# Altium footprint library led1206.PcbLib: 1 footprints
Each footprint in its own frame and in the unit in brackets; x right, y up, seen from the top. Pads: shape width x height; smd on the part's side, far side on the other; paste and mask are expansions set on the pad; w line width, h text height; cw(c..) or ccw(c..) is an arc to the next point about the centre after c.
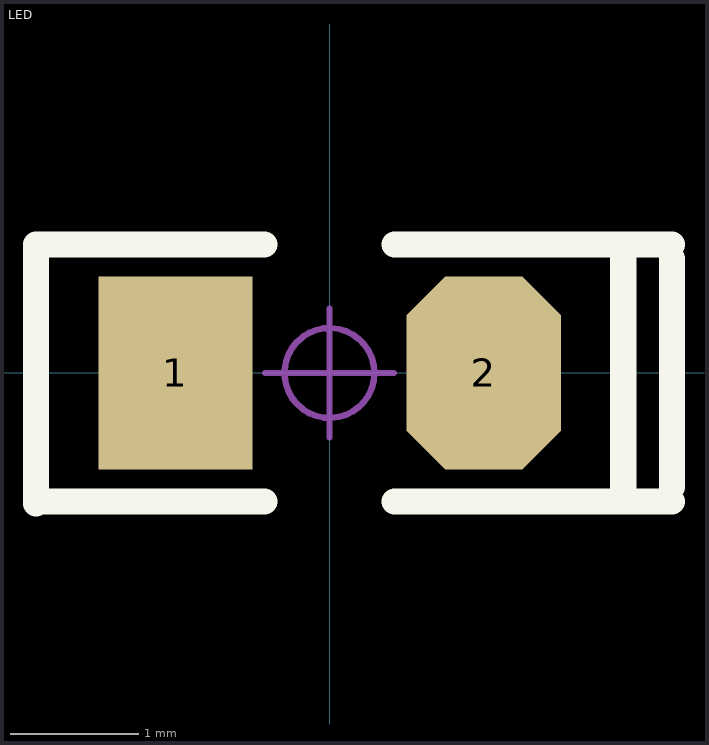
[diagram p0: the footprint, top view; thin cyan lines are the x and y axes]

## LED [mm]
pads (2):
  rect 1.2x1.5 smd: 1(-1.2,0)
  oct 1.2x1.5 smd: 2(1.2,0)
Top Overlay:
  lines w0.203: -2.286,-1.016 -2.286,1 -0.508,1 ; -2.286,-1 -0.508,-1 ; 0.508,-1 2.667,-1 ; 0.508,1 2.667,1 ; 2.286,-0.889 2.286,0.889 ; 2.667,-0.889 2.667,0.889
Mechanical 15:
  circle w0.05: c0,0 r0.35
  lines w0.05: -0.5,0 0.5,0 ; 0,-0.5 0,0.5
3D body "LED 0805-B.STEP": height 0.67, standoff 0, extent -1,-0.626 1,0.626
3D body "LED 0805玻璃罩.STEP": height 0.8, standoff 0.31, extent -0.749,-0.626 0.749,0.626